# EAGLE library part STLINKV3_STDC14 (library jtag)
FTSH Pin Header
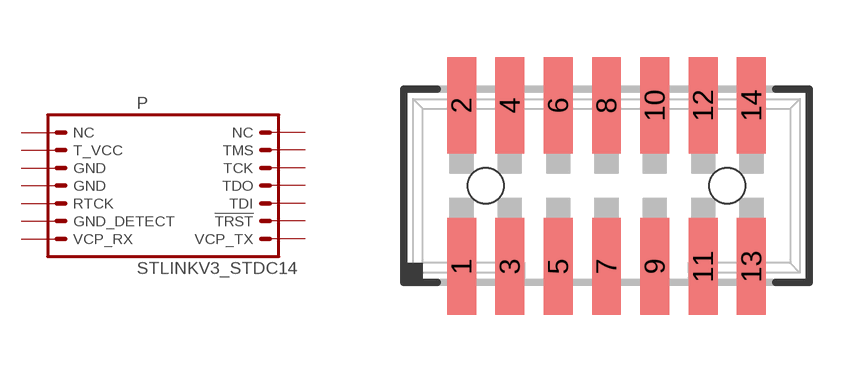
[diagram p1: symbol with the pads of FTSH-107-01-L-DV-K; footprint FTSH-107-01-L-DV-K]

Designator prefix P

## STLINKV3_STDC14  [FTSH-107-01-L-DV-K]
1  NC  nc
2  NC  nc
3  T_VCC  out
4  TMS  out
5  GND  pas
6  TCK  out
7  GND  pas
8  TDO  in
9  RTCK  in
10  TDI  out
11  GND_DETECT  pas
12  !TRST  out
13  VCP_RX  in
14  VCP_TX  out

## Footprint FTSH-107-01-L-DV-K (pad centres in mm)
CONNECTOR HEADER Samtec FTSH-105-01-L-DV-K
smd 0.762 x 2.54: 1 -3.81,-2.121; 2 -3.81,2.121; 3 -2.54,-2.121; 4 -2.54,2.121; 5 -1.27,-2.121; 6 -1.27,2.121; 7 0,-2.121; 8 0,2.121; 9 1.27,-2.121; 10 1.27,2.121; 11 2.54,-2.121; 12 2.54,2.121; 13 3.81,-2.121; 14 3.81,2.121
hole 0.94 at -3.175,0
hole 0.94 at 3.175,0